# Altium schematic symbol library ICs_Control.SchLib: 37 symbols (part 6 of 6)
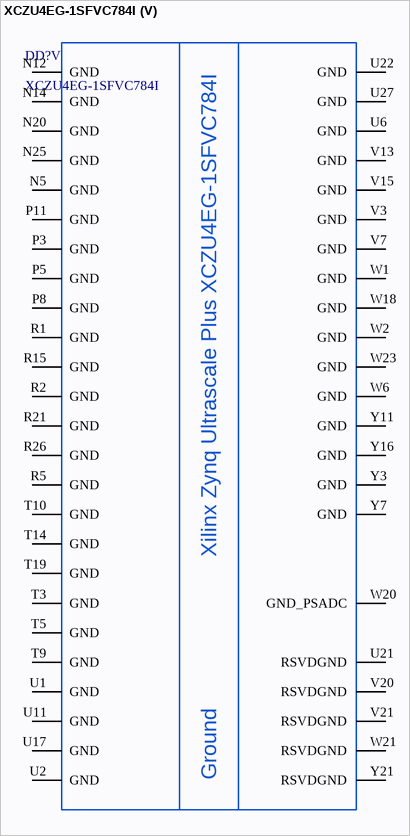
[diagram p82: symbol XCZU4EG-1SFVC784I]

## XCZU4EG-1SFVC784I
designator DD?
Zynq Ultrascale Plus MPSoC, 214 PS I/O, 252 PL I/O, 784-Ball BGA, 4 GTR, 4 GTH; Manufacturer: Xilinx; ItemType: IC; ItemSubType: SoC; Speed Grade: -1; PartNumber: XCZU4EG-1SFVC784I; Package: SFVC784; Marking: XCZU4EG; Mounting: SMD
footprint SFVC784_XCZU4EG (BGA, 784-Leads, Body 23,00x23,00mmx3,12mm, Pitch 0,80mm)
part A pins: P12 VCCADC (power), P13 GNDADC, R12 VREFN (in), R13 VP (in), T12 VN (in), T13 VREFP (in), U7 PUDC_B (in), U12 DXN (in), U13 DXP (in), W7 POR_OVERRIDE (in)
part B pins: AA8 IO_L11N_AD1N_43 (io), AA10 IO_L9N_AD3N_43 (io), AA11 IO_L9P_AD3P_43 (io), AB9 IO_L12N_AD0N_43 (io), AB10 IO_L12P_AD0P_43 (io), AB11 IO_L8P_HDGC_AD4P_43 (io), AC11 IO_L8N_HDGC_AD4N_43 (io), AC12 IO_L6P_HDGC_AD6P_43 (io), AD10 IO_L7N_HDGC_AD5N_43 (io), AD11 IO_L7P_HDGC_AD5P_43 (io), AD12 IO_L6N_HDGC_AD6N_43 (io), AE10 IO_L4P_AD8P_43 (io), AE12 IO_L5P_HDGC_AD7P_43 (io), AF10 IO_L4N_AD8N_43 (io), AF11 IO_L2P_AD10P_43 (io), AF12 IO_L5N_HDGC_AD7N_43 (io), AG10 IO_L1P_AD11P_43 (io), AG11 IO_L2N_AD10N_43 (io), AH10 IO_L1N_AD11N_43 (io), AH11 IO_L3N_AD9N_43 (io), AH12 IO_L3P_AD9P_43 (io), W10 IO_L10P_AD2P_43 (io), Y9 IO_L11P_AD1P_43 (io), Y10 IO_L10N_AD2N_43 (io)
part C pins: AA12 IO_L12N_AD8N_44 (io), AA13 IO_L7P_HDGC_44 (io), AB13 IO_L7N_HDGC_44 (io), AB14 IO_L8N_HDGC_44 (io), AB15 IO_L8P_HDGC_44 (io), AC13 IO_L6N_HDGC_44 (io), AC14 IO_L6P_HDGC_44 (io), AD14 IO_L5N_HDGC_44 (io), AD15 IO_L5P_HDGC_44 (io), AE13 IO_L4P_AD12P_44 (io), AE14 IO_L1N_AD15N_44 (io), AE15 IO_L1P_AD15P_44 (io), AF13 IO_L4N_AD12N_44 (io), AG13 IO_L3P_AD13P_44 (io), AG14 IO_L2P_AD14P_44 (io), AH13 IO_L3N_AD13N_44 (io), AH14 IO_L2N_AD14N_44 (io), W11 IO_L11N_AD9N_44 (io), W12 IO_L11P_AD9P_44 (io), W13 IO_L9N_AD11N_44 (io), W14 IO_L9P_AD11P_44 (io), Y12 IO_L12P_AD8P_44 (io), Y13 IO_L10N_AD10N_44 (io), Y14 IO_L10P_AD10P_44 (io)
part D pins: A10 IO_L10N_AD10N_45 (io), A11 IO_L11N_AD9N_45 (io), A12 IO_L11P_AD9P_45 (io), B10 IO_L9N_AD11N_45 (io), B11 IO_L10P_AD10P_45 (io), C11 IO_L9P_AD11P_45 (io), C12 IO_L12N_AD8N_45 (io), D10 IO_L7N_HDGC_45 (io), D11 IO_L8N_HDGC_45 (io), D12 IO_L12P_AD8P_45 (io), E10 IO_L7P_HDGC_45 (io), E12 IO_L8P_HDGC_45 (io), F10 IO_L5N_HDGC_45 (io), F11 IO_L6N_HDGC_45 (io), F12 IO_L6P_HDGC_45 (io), G10 IO_L3N_AD13N_45 (io), G11 IO_L5P_HDGC_45 (io), H11 IO_L3P_AD13P_45 (io), H12 IO_L4N_AD12N_45 (io), J10 IO_L1N_AD15N_45 (io), J11 IO_L1P_AD15P_45 (io), J12 IO_L4P_AD12P_45 (io), K12 IO_L2N_AD14N_45 (io), K13 IO_L2P_AD14P_45 (io)
part E pins: A13 IO_L3N_AD9N_46 (io), A14 IO_L2N_AD10N_46 (io), A15 IO_L1N_AD11N_46 (io), B13 IO_L3P_AD9P_46 (io), B14 IO_L2P_AD10P_46 (io), B15 IO_L1P_AD11P_46 (io), C13 IO_L4N_AD8N_46 (io), C14 IO_L4P_AD8P_46 (io), D14 IO_L5N_HDGC_AD7N_46 (io), D15 IO_L5P_HDGC_AD7P_46 (io), E13 IO_L6N_HDGC_AD6N_46 (io), E14 IO_L6P_HDGC_AD6P_46 (io), E15 IO_L8N_HDGC_AD4N_46 (io), F13 IO_L7N_HDGC_AD5N_46 (io), F15 IO_L8P_HDGC_AD4P_46 (io), G13 IO_L7P_HDGC_AD5P_46 (io), G14 IO_L9N_AD3N_46 (io), G15 IO_L9P_AD3P_46 (io), H13 IO_L10N_AD2N_46 (io), H14 IO_L10P_AD2P_46 (io), J14 IO_L11N_AD1N_46 (io), K14 IO_L11P_AD1P_46 (io), L13 IO_L12N_AD0N_46 (io), L14 IO_L12P_AD0P_46 (io)
part F pins: AA7 VREF_64, AB1 IO_L18P_T2U_N10_AD2P_64 (io), AB2 IO_L17P_T2U_N8_AD10P_64 (io), AB3 IO_L15N_T2L_N5_AD11N_64 (io), AB4 IO_L15P_T2L_N4_AD11P_64 (io), AB5 IO_T2U_N12_64 (io), AB6 IO_L6P_T0U_N10_AD6P_64 (io), AB7 IO_L5P_T0U_N8_AD14P_64 (io), AB8 IO_L3P_T0L_N4_AD15P_64 (io), AC1 IO_L18N_T2U_N11_AD2N_64 (io), AC2 IO_L17N_T2U_N9_AD10N_64 (io), AC3 IO_L14N_T2L_N3_GC_64 (io), AC4 IO_L14P_T2L_N2_GC_64 (io), AC6 IO_L6N_T0U_N11_AD6N_64 (io), AC7 IO_L5N_T0U_N9_AD14N_64 (io), AC8 IO_L3N_T0L_N5_AD15N_64 (io), AC9 IO_L1P_T0L_N0_DBC_64 (io), AD1 IO_L16N_T2U_N7_QBC_AD3N_64 (io), AD2 IO_L16P_T2U_N6_QBC_AD3P_64 (io), AD4 IO_L13N_T2L_N1_GC_QBC_64 (io), AD5 IO_L13P_T2L_N0_GC_QBC_64 (io), AD6 IO_T0U_N12_VRP_64 (io), AD7 IO_L4P_T0U_N6_DBC_AD7P_64 (io), AD9 IO_L1N_T0L_N1_DBC_64 (io), AE2 IO_L22P_T3U_N6_DBC_AD0P_64 (io), AE3 IO_L21P_T3L_N4_AD8P_64 (io), AE4 IO_T3U_N12_64 (io), AE5 IO_L12P_T1U_N10_GC_64 (io), AE7 IO_L4N_T0U_N7_DBC_AD7N_64 (io), AE8 IO_L2N_T0L_N3_64 (io), AE9 IO_L2P_T0L_N2_64 (io), AF1 IO_L24P_T3U_N10_64 (io), AF2 IO_L22N_T3U_N7_DBC_AD0N_64 (io), AF3 IO_L21N_T3L_N5_AD8N_64 (io), AF5 IO_L12N_T1U_N11_GC_64 (io), AF6 IO_L11N_T1U_N9_GC_64 (io), AF7 IO_L11P_T1U_N8_GC_64 (io), AF8 IO_L8P_T1L_N2_AD5P_64 (io), AG1 IO_L24N_T3U_N11_64 (io), AG3 IO_L20P_T3L_N2_AD1P_64 (io), AG4 IO_L19P_T3L_N0_DBC_AD9P_64 (io), AG5 IO_L10N_T1U_N7_QBC_AD4N_64 (io), AG6 IO_L10P_T1U_N6_QBC_AD4P_64 (io), AG8 IO_L8N_T1L_N3_AD5N_64 (io), AG9 IO_L7P_T1L_N0_QBC_AD13P_64 (io), AH1 IO_L23N_T3U_N9_64 (io), AH2 IO_L23P_T3U_N8_64 (io), AH3 IO_L20N_T3L_N3_AD1N_64 (io), AH4 IO_L19N_T3L_N1_DBC_AD9N_64 (io), AH6 IO_T1U_N12_64 (io), AH7 IO_L9N_T1L_N5_AD12N_64 (io), AH8 IO_L9P_T1L_N4_AD12P_64 (io), AH9 IO_L7N_T1L_N1_QBC_AD13N_64 (io)
part G pins: H1 IO_L8N_T1L_N3_AD5N_65 (io), H2 IO_T1U_N12_65 (io), H3 IO_L10N_T1U_N7_QBC_AD4N_65 (io), H4 IO_L10P_T1U_N6_QBC_AD4P_65 (io), H6 IO_L20N_T3L_N3_AD1N_65 (io), H7 IO_L21N_T3L_N5_AD8N_65 (io), H8 IO_L24N_T3U_N11_PERSTN0_65 (io), H9 IO_L24P_T3U_N10_PERSTN1_I2C_SDA_65 (io), J1 IO_L8P_T1L_N2_AD5P_65 (io), J2 IO_L9N_T1L_N5_AD12N_65 (io), J4 IO_L19N_T3L_N1_DBC_AD9N_65 (io), J5 IO_L19P_T3L_N0_DBC_AD9P_65 (io), J6 IO_L20P_T3L_N2_AD1P_65 (io), J7 IO_L21P_T3L_N4_AD8P_65 (io), J9 IO_L23N_T3U_N9_65 (io), K1 IO_L7N_T1L_N1_QBC_AD13N_65 (io), K2 IO_L9P_T1L_N4_AD12P_65 (io), K3 IO_L11N_T1U_N9_GC_65 (io), K4 IO_L11P_T1U_N8_GC_65 (io), K5 IO_T3U_N12_65 (io), K7 IO_L22N_T3U_N7_DBC_AD0N_65 (io), K8 IO_L22P_T3U_N6_DBC_AD0P_65 (io), K9 IO_L23P_T3U_N8_I2C_SCLK_65 (io), L1 IO_L7P_T1L_N0_QBC_AD13P_65 (io), L2 IO_L12N_T1U_N11_GC_65 (io), L3 IO_L12P_T1U_N10_GC_65 (io), L5 IO_L14N_T2L_N3_GC_65 (io), L6 IO_L13N_T2L_N1_GC_QBC_65 (io), L7 IO_L13P_T2L_N0_GC_QBC_65 (io), L8 IO_L18N_T2U_N11_AD2N_65 (io), M6 IO_L14P_T2L_N2_GC_65 (io), M8 IO_L18P_T2U_N10_AD2P_65 (io), N6 IO_L15N_T2L_N5_AD11N_65 (io), N7 IO_L15P_T2L_N4_AD11P_65 (io), N8 IO_L17N_T2U_N9_AD10N_65 (io), N9 IO_L17P_T2U_N8_AD10P_65 (io), P6 IO_L16N_T2U_N7_QBC_AD3N_65 (io), P7 IO_L16P_T2U_N6_QBC_AD3P_65 (io), P9 IO_T2U_N12_65 (io), R6 IO_L6P_T0U_N10_AD6P_65 (io), R7 IO_L5P_T0U_N8_AD14P_65 (io), R8 IO_L4P_T0U_N6_DBC_AD7P_SMBALERT_65 (io), R9 VREF_65, T6 IO_L6N_T0U_N11_AD6N_65 (io), T7 IO_L5N_T0U_N9_AD14N_65 (io), T8 IO_L4N_T0U_N7_DBC_AD7N_65 (io), U8 IO_L3P_T0L_N4_AD15P_65 (io), U9 IO_L2P_T0L_N2_65 (io), V8 IO_L3N_T0L_N5_AD15N_65 (io), V9 IO_L2N_T0L_N3_65 (io), W8 IO_L1P_T0L_N0_DBC_65 (io), W9 IO_T0U_N12_VRP_65 (io), Y8 IO_L1N_T0L_N1_DBC_65 (io)
part H pins: A1 IO_L8N_T1L_N3_AD5N_66 (io), A2 IO_L8P_T1L_N2_AD5P_66 (io), A3 IO_L9N_T1L_N5_AD12N_66 (io), A4 IO_L10N_T1U_N7_QBC_AD4N_66 (io), A5 IO_L19N_T3L_N1_DBC_AD9N_66 (io), A6 IO_L21N_T3L_N5_AD8N_66 (io), A7 IO_L21P_T3L_N4_AD8P_66 (io), A8 IO_L23N_T3U_N9_66 (io), A9 IO_L23P_T3U_N8_66 (io), B1 IO_L7N_T1L_N1_QBC_AD13N_66 (io), B3 IO_L9P_T1L_N4_AD12P_66 (io), B4 IO_L10P_T1U_N6_QBC_AD4P_66 (io), B5 IO_L19P_T3L_N0_DBC_AD9P_66 (io), B6 IO_L20N_T3L_N3_AD1N_66 (io), B8 IO_L22N_T3U_N7_DBC_AD0N_66 (io), B9 IO_L24N_T3U_N11_66 (io), C1 IO_L7P_T1L_N0_QBC_AD13P_66 (io), C2 IO_L12N_T1U_N11_GC_66 (io), C3 IO_L12P_T1U_N10_GC_66 (io), C4 IO_L11N_T1U_N9_GC_66 (io), C6 IO_L20P_T3L_N2_AD1P_66 (io), C7 IO_T3U_N12_66 (io), C8 IO_L22P_T3U_N6_DBC_AD0P_66 (io), C9 IO_L24P_T3U_N10_66 (io), D1 IO_L2N_T0L_N3_66 (io), D2 IO_T1U_N12_66 (io), D4 IO_L11P_T1U_N8_GC_66 (io), D5 IO_L14N_T2L_N3_GC_66 (io), D6 IO_L13N_T2L_N1_GC_QBC_66 (io), D7 IO_L13P_T2L_N0_GC_QBC_66 (io), D9 IO_L18N_T2U_N11_AD2N_66 (io), E1 IO_L2P_T0L_N2_66 (io), E2 IO_L3N_T0L_N5_AD15N_66 (io), E3 IO_L5N_T0U_N9_AD14N_66 (io), E4 IO_L5P_T0U_N8_AD14P_66 (io), E5 IO_L14P_T2L_N2_GC_66 (io), E7 IO_T2U_N12_66 (io), E8 IO_L17N_T2U_N9_AD10N_66 (io), E9 IO_L18P_T2U_N10_AD2P_66 (io), F1 IO_L1N_T0L_N1_DBC_66 (io), F2 IO_L3P_T0L_N4_AD15P_66 (io), F3 IO_L4N_T0U_N7_DBC_AD7N_66 (io), F5 IO_L6N_T0U_N11_AD6N_66 (io), F6 IO_L15N_T2L_N5_AD11N_66 (io), F7 IO_L16N_T2U_N7_QBC_AD3N_66 (io), F8 IO_L17P_T2U_N8_AD10P_66 (io), G1 IO_L1P_T0L_N0_DBC_66 (io), G3 IO_L4P_T0U_N6_DBC_AD7P_66 (io), G4 IO_T0U_N12_VRP_66 (io), G5 IO_L6P_T0U_N10_AD6P_66 (io), G6 IO_L15P_T2L_N4_AD11P_66 (io), G8 IO_L16P_T2U_N6_QBC_AD3P_66 (io), G9 VREF_66
part I pins: N1 MGTAVTTRCAL_R, N2 MGTRREF_R, N3 MGTHTXN3_224 (out), N4 MGTHTXP3_224 (out), P1 MGTHRXN3_224 (in), P2 MGTHRXP3_224 (in), R3 MGTHTXN2_224 (out), R4 MGTHTXP2_224 (out), T1 MGTHRXN2_224 (in), T2 MGTHRXP2_224 (in), U3 MGTHTXN1_224 (out), U4 MGTHTXP1_224 (out), V1 MGTHRXN1_224 (in), V2 MGTHRXP1_224 (in), V5 MGTREFCLK1N_224 (in), V6 MGTREFCLK1P_224 (in), W3 MGTHTXN0_224 (out), W4 MGTHTXP0_224 (out), Y1 MGTHRXN0_224 (in), Y2 MGTHRXP0_224 (in), Y5 MGTREFCLK0N_224 (in), Y6 MGTREFCLK0P_224 (in)
part J pins: AB18 PS_MIO23 (io), AB19 PS_MIO24 (io), AB20 PS_MIO22 (io), AB21 PS_MIO25 (io), AC16 PS_MIO9 (io), AC17 PS_MIO12 (io), AC18 PS_MIO17 (io), AC19 PS_MIO18 (io), AC21 PS_MIO21 (io), AD16 PS_MIO5 (io), AD17 PS_MIO10 (io), AD19 PS_MIO20 (io), AE17 PS_MIO11 (io), AE18 PS_MIO15 (io), AE19 PS_MIO19 (io), AF15 PS_MIO2 (io), AF16 PS_MIO6 (io), AF17 PS_MIO8 (io), AF18 PS_MIO16 (io), AG15 PS_MIO0 (io), AG16 PS_MIO1 (io), AG18 PS_MIO14 (io), AH15 PS_MIO3 (io), AH16 PS_MIO4 (io), AH17 PS_MIO7 (io), AH18 PS_MIO13 (io)
part K pins: F16 PS_MIO30 (io), G16 PS_MIO29 (io), H16 PS_MIO31 (io), H17 PS_MIO35 (io), H18 PS_MIO38 (io), H19 PS_MIO39 (io), H21 PS_MIO47 (io), J15 PS_MIO27 (io), J16 PS_MIO32 (io), J17 PS_MIO37 (io), J19 PS_MIO41 (io), J20 PS_MIO44 (io), J21 PS_MIO48 (io), K15 PS_MIO28 (io), K17 PS_MIO36 (io), K18 PS_MIO40 (io), K19 PS_MIO43 (io), K20 PS_MIO45 (io), L15 PS_MIO26 (io), L16 PS_MIO33 (io), L17 PS_MIO34 (io), L18 PS_MIO42 (io), L20 PS_MIO46 (io), L21 PS_MIO51 (io), M18 PS_MIO49 (io), M19 PS_MIO50 (io)
part L pins: A16 PS_MIO57 (io), A17 PS_MIO62 (io), A18 PS_MIO65 (io), A19 PS_MIO75 (io), B16 PS_MIO55 (io), B18 PS_MIO67 (io), B19 PS_MIO71 (io), B20 PS_MIO76 (io), C16 PS_MIO56 (io), C17 PS_MIO60 (io), C18 PS_MIO68 (io), C19 PS_MIO70 (io), D16 PS_MIO53 (io), D17 PS_MIO61 (io), D19 PS_MIO69 (io), D20 PS_MIO74 (io), E17 PS_MIO59 (io), E18 PS_MIO63 (io), E19 PS_MIO64 (io), F17 PS_MIO54 (io), F18 PS_MIO58 (io), F20 PS_MIO77 (io), G18 PS_MIO52 (io), G19 PS_MIO66 (io), G20 PS_MIO72 (io), G21 PS_MIO73 (io)
part M pins: M20 PS_ERROR_STATUS (out), M21 PS_DONE (out), N17 PS_PADI (in), N18 PS_PADO (out), N19 PS_SRST_B (in), N21 PS_JTAG_TMS (in), P16 PS_POR_B (in), P17 PS_ERROR_OUT (out), P19 PS_MODE0 (in), P20 PS_MODE1 (in), P21 PS_INIT_B (in), R16 PS_REF_CLK (in), R17 PS_PROG_B (in), R18 PS_JTAG_TDI (in), R19 PS_JTAG_TCK (in), R20 PS_MODE2 (in), T20 PS_MODE3 (in), T21 PS_JTAG_TDO (out)
part N pins: AA22 PS_DDR_A8 (out), AA23 PS_DDR_A7 (out), AA25 PS_DDR_A10 (out), AA26 PS_DDR_A11 (out), AA27 PS_DDR_A5 (out), AA28 PS_DDR_A3 (out), AB23 PS_DDR_A9 (out), AB24 PS_DDR_A14 (out), AB25 PS_DDR_A12 (out), AB26 PS_DDR_A13 (out), AB28 PS_DDR_A2 (out), AC22 PS_DDR_A17 (out), AC23 PS_DDR_A16 (out), AC24 PS_DDR_A15 (out), U23 PS_DDR_RAM_RST_N (out), U24 PS_DDR_ZQ, U25 PS_DDR_ALERT_N (in), U26 PS_DDR_ODT1 (out), U28 PS_DDR_ODT0 (out), V22 PS_DDR_BG1 (out), V23 PS_DDR_BA0 (out), V24 PS_DDR_PARITY (out), V26 PS_DDR_CS_N1 (out), V27 PS_DDR_CKE1 (out), V28 PS_DDR_CKE0 (out), W22 PS_DDR_BA1 (out), W24 PS_DDR_BG0 (out), W25 PS_DDR_CK0 (out), W26 PS_DDR_CK_N0 (out), W27 PS_DDR_CS_N0 (out), W28 PS_DDR_A0 (out), Y22 PS_DDR_A6 (out), Y23 PS_DDR_ACT_N (out), Y24 PS_DDR_CK1 (out), Y25 PS_DDR_CK_N1 (out), Y27 PS_DDR_A4 (out), Y28 PS_DDR_A1 (out)
part O pins: AC26 PS_DDR_DQ16 (io), AC27 PS_DDR_DQ28 (io), AC28 PS_DDR_DQ31 (io), AD20 PS_DDR_DQ2 (io), AD21 PS_DDR_DQ0 (io), AD22 PS_DDR_DQ11 (io), AD24 PS_DDR_DQ19 (io), AD25 PS_DDR_DQ18 (io), AD26 PS_DDR_DQ17 (io), AD27 PS_DDR_DQ29 (io), AD28 PS_DDR_DQ30 (io), AE20 PS_DDR_DQ1 (io), AE22 PS_DDR_DQ10 (io), AE23 PS_DDR_DM1 (out), AE24 PS_DDR_DQ14 (io), AE25 PS_DDR_DM2 (out), AE27 PS_DDR_DQS_P3 (io), AE28 PS_DDR_DM3 (out), AF20 PS_DDR_DQ3 (io), AF21 PS_DDR_DQS_P0 (io), AF22 PS_DDR_DQ8 (io), AF23 PS_DDR_DQS_P1 (io), AF25 PS_DDR_DQS_P2 (io), AF26 PS_DDR_DQS_N2 (io), AF27 PS_DDR_DQS_N3 (io), AF28 PS_DDR_DQ26 (io), AG19 PS_DDR_DQ7 (io), AG20 PS_DDR_DM0 (out), AG21 PS_DDR_DQS_N0 (io), AG23 PS_DDR_DQS_N1 (io), AG24 PS_DDR_DQ15 (io), AG25 PS_DDR_DQ23 (io), AG26 PS_DDR_DQ20 (io), AG28 PS_DDR_DQ27 (io), AH19 PS_DDR_DQ6 (io), AH20 PS_DDR_DQ5 (io), AH21 PS_DDR_DQ4 (io), AH22 PS_DDR_DQ9 (io), AH23 PS_DDR_DQ12 (io), AH24 PS_DDR_DQ13 (io), AH25 PS_DDR_DQ21 (io), AH26 PS_DDR_DQ22 (io), AH27 PS_DDR_DQ24 (io), AH28 PS_DDR_DQ25 (io)
part P pins: G25 PS_DDR_DQ61 (io), G26 PS_DDR_DQ60 (io), H22 PS_DDR_DQ45 (io), H23 PS_DDR_DM5 (out), H24 PS_DDR_DQ40 (io), H26 PS_DDR_DM7 (out), H27 PS_DDR_DQ59 (io), H28 PS_DDR_DQ58 (io), J22 PS_DDR_DQ44 (io), J24 PS_DDR_DQ41 (io), J25 PS_DDR_DQ63 (io), J26 PS_DDR_DQS_P7 (io), J27 PS_DDR_DQS_N7 (io), J28 PS_DDR_DQ56 (io), K22 PS_DDR_DQ46 (io), K23 PS_DDR_DQS_N5 (io), K24 PS_DDR_DQ43 (io), K25 PS_DDR_DQ62 (io), K27 PS_DDR_DQ57 (io), K28 PS_DDR_DQ52 (io), L22 PS_DDR_DQ47 (io), L23 PS_DDR_DQS_P5 (io), L25 PS_DDR_DQ50 (io), L26 PS_DDR_DQ51 (io), L27 PS_DDR_DM6 (out), L28 PS_DDR_DQ53 (io), M23 PS_DDR_DQS_N4 (io), M24 PS_DDR_DQ42 (io), M25 PS_DDR_DQ48 (io), M26 PS_DDR_DQ49 (io), M28 PS_DDR_DQ54 (io), N22 PS_DDR_DQ35 (io), N23 PS_DDR_DQS_P4 (io), N24 PS_DDR_DQ39 (io), N26 PS_DDR_DQS_P6 (io), N27 PS_DDR_DQS_N6 (io), N28 PS_DDR_DQ55 (io), P22 PS_DDR_DQ34 (io), P24 PS_DDR_DQ37 (io), P25 PS_DDR_DQ70 (io), P26 PS_DDR_DQ68 (io), P27 PS_DDR_DQ67 (io), P28 PS_DDR_DQ66 (io), R22 PS_DDR_DQ33 (io), R23 PS_DDR_DM4 (out), R24 PS_DDR_DQ38 (io), R25 PS_DDR_DQ69 (io), R27 PS_DDR_DQS_P8 (io), R28 PS_DDR_DQ65 (io), T22 PS_DDR_DQ32 (io), T23 PS_DDR_DQ36 (io), T25 PS_DDR_DQ71 (io), T26 PS_DDR_DM8 (out), T27 PS_DDR_DQS_N8 (io), T28 PS_DDR_DQ64 (io)
part Q pins: A21 PS_MGTREFCLK3P_505 (in), A22 PS_MGTREFCLK3N_505 (in), A25 PS_MGTRRXP3_505 (in), A26 PS_MGTRRXN3_505 (in), B23 PS_MGTRTXP3_505 (out), B24 PS_MGTRTXN3_505 (out), B27 PS_MGTRRXP2_505 (in), B28 PS_MGTRRXN2_505 (in), C21 PS_MGTREFCLK2P_505 (in), C22 PS_MGTREFCLK2N_505 (in), C25 PS_MGTRTXP2_505 (out), C26 PS_MGTRTXN2_505 (out), D23 PS_MGTRTXP1_505 (out), D24 PS_MGTRTXN1_505 (out), D27 PS_MGTRRXP1_505 (in), D28 PS_MGTRRXN1_505 (in), E21 PS_MGTREFCLK1P_505 (in), E22 PS_MGTREFCLK1N_505 (in), E25 PS_MGTRTXP0_505 (out), E26 PS_MGTRTXN0_505 (out), F22 PS_MGTRREF_505, F23 PS_MGTREFCLK0P_505 (in), F24 PS_MGTREFCLK0N_505 (in), F27 PS_MGTRRXP0_505 (in), F28 PS_MGTRRXN0_505 (in)
part R pins: A23 PS_MGTRAVTT (power), AA15 VCC_PSINTFP (power), AA16 VCC_PSINTFP (power), AA17 VCC_PSINTFP (power), AA18 VCC_PSINTFP (power), AA20 VCC_PSINTFP_DDR (power), AA21 VCC_PSINTFP_DDR (power), AB16 VCC_PSINTFP (power), AB17 VCCO_PSIO0_500 (power), AB22 VCCO_PSDDR_504 (power), AD23 VCCO_PSDDR_504 (power), AE16 VCCO_PSIO0_500 (power), AF24 VCCO_PSDDR_504 (power), AG17 VCCO_PSIO0_500 (power), B22 PS_MGTRAVCC (power), C23 PS_MGTRAVTT (power), D18 VCCO_PSIO2_502 (power), D22 PS_MGTRAVCC (power), D25 PS_MGTRAVTT (power), E23 PS_MGTRAVTT (power), G17 VCCO_PSIO2_502 (power), H20 VCCO_PSIO1_501 (power), L19 VCCO_PSIO1_501 (power), M17 VCCO_PSIO3_503 (power), P18 VCCO_PSIO3_503 (power), P23 VCCO_PSDDR_504 (power), T16 VCC_PSPLL (power), T17 VCC_PSPLL (power), T18 VCC_PSPLL (power), T24 VCCO_PSDDR_504 (power), U16 VCC_PSDDR_PLL (power), U18 VCC_PSDDR_PLL (power), U19 VCC_PSAUX (power), U20 VCC_PSAUX (power), V16 VCC_PSINTLP (power), V17 VCC_PSINTLP (power), V18 VCC_PSINTLP (power), V19 VCC_PSAUX (power), V25 VCCO_PSDDR_504 (power), W15 VCC_PSINTLP (power), W16 VCC_PSINTLP (power), W17 VCC_PSINTLP (power), W19 VCC_PSAUX (power), Y15 VCC_PSINTFP (power), Y17 VCC_PSINTFP (power), Y18 VCC_PSBATT (power), Y19 VCC_PSINTFP_DDR (power), Y20 VCC_PSADC (power), Y26 VCCO_PSDDR_504 (power)
part S pins: K10 VCCINT_IO (power), L10 VCCINT_IO (power), L11 VCCBRAM (power), L12 VCCBRAM (power), M9 VCCINT_IO (power), M10 VCCINT_IO (power), M11 VCCBRAM (power), M12 VCCBRAM (power), M13 VCCAUX_IO (power), M14 VCCAUX_IO (power), M15 VCCAUX_IO (power), M16 VCCAUX (power), N11 VCCINT (power), N13 VCCINT (power), N15 VCCINT (power), N16 VCCAUX (power), P4 MGTAVTT_R (power), P10 VCCINT (power), P14 VCCINT (power), P15 VCCINT (power), R10 VCCINT (power), R11 VCCINT (power), R14 VCCINT (power), T4 MGTAVTT_R (power), T11 VCCINT (power), T15 VCCINT (power), U5 MGTVCCAUX_R (power), U10 VCCINT (power), U14 VCCINT (power), U15 VCCINT (power), V4 MGTAVCC_R (power), V10 VCCINT (power), V11 VCCINT (power), V12 VCCINT (power), V14 VCCINT (power), W5 MGTVCCAUX_R (power), Y4 MGTAVCC_R (power)
part T pins: AA14 VCCO_44 (power), AC5 VCCO_64 (power), AC10 VCCO_43 (power), AD8 VCCO_64 (power), AD13 VCCO_44 (power), AG7 VCCO_64 (power), AG12 VCCO_43 (power), B7 VCCO_66 (power), B12 VCCO_45 (power), C15 VCCO_46 (power), D3 VCCO_66 (power), E6 VCCO_66 (power), E11 VCCO_45 (power), F14 VCCO_46 (power), H5 VCCO_65 (power), J3 VCCO_65 (power), L4 VCCO_65 (power)
part U pins: A20 GND, A24 GND, A27 GND, A28 GND, AA1 GND, AA2 GND, AA3 GND, AA4 GND, AA5 GND, AA6 GND, AA9 GND, AA19 GND, AA24 GND, AB12 GND, AB27 GND, AC15 GND, AC20 GND, AC25 GND, AD3 GND, AD18 GND, AE1 GND, AE6 GND, AE11 GND, AE21 GND, AE26 GND, AF4 GND, AF9 GND, AF14 GND, AF19 GND, AG2 GND, AG22 GND, AG27 GND, AH5 GND, B2 GND, B17 GND, B21 GND, B25 GND, B26 GND, C5 GND, C10 GND, C20 GND, C24 GND, C27 GND, C28 GND, D8 GND, D13 GND, D21 GND, D26 GND, E16 GND, E20 GND, E24 GND, E27 GND, E28 GND, F4 GND, F9 GND, F19 GND, F21 GND, F25 GND, F26 GND, G2 GND, G7 GND, G12 GND, G22 GND, G23 GND, G24 GND, G27 GND, G28 GND, H10 GND, H15 GND, H25 GND, J8 GND, J13 GND, J18 GND, J23 GND, K6 GND, K11 GND, K16 GND, K21 GND, K26 GND, L9 GND, L24 GND, M1 GND, M2 GND, M3 GND, M4 GND, M5 GND, M7 GND, M22 GND, M27 GND, N10 GND
part V pins: N5 GND, N12 GND, N14 GND, N20 GND, N25 GND, P3 GND, P5 GND, P8 GND, P11 GND, R1 GND, R2 GND, R5 GND, R15 GND, R21 GND, R26 GND, T3 GND, T5 GND, T9 GND, T10 GND, T14 GND, T19 GND, U1 GND, U2 GND, U6 GND, U11 GND, U17 GND, U21 RSVDGND, U22 GND, U27 GND, V3 GND, V7 GND, V13 GND, V15 GND, V20 RSVDGND, V21 RSVDGND, W1 GND, W2 GND, W6 GND, W18 GND, W20 GND_PSADC, W21 RSVDGND, W23 GND, Y3 GND, Y7 GND, Y11 GND, Y16 GND, Y21 RSVDGND
part A text: Xilinx Zynq Ultrascale Plus XCZU4EG-1SFVC784I; BANK 0
part B text: Xilinx Zynq Ultrascale Plus XCZU4EG-1SFVC784I; BANK 43 HD
part C text: Xilinx Zynq Ultrascale Plus XCZU4EG-1SFVC784I; BANK 44 HD
part D text: Xilinx Zynq Ultrascale Plus XCZU4EG-1SFVC784I; BANK 45 HD
part E text: Xilinx Zynq Ultrascale Plus XCZU4EG-1SFVC784I; BANK 46 HD
part F text: Xilinx Zynq Ultrascale Plus XCZU4EG-1SFVC784I; BANK 64 HP
part G text: Xilinx Zynq Ultrascale Plus XCZU4EG-1SFVC784I; BANK 65 HP
part H text: Xilinx Zynq Ultrascale Plus XCZU4EG-1SFVC784I; BANK 66 HP
part I text: Xilinx Zynq Ultrascale Plus XCZU4EG-1SFVC784I; BANK 224 GTH
part J text: Xilinx Zynq Ultrascale Plus XCZU4EG-1SFVC784I; BANK 500 PS
part K text: Xilinx Zynq Ultrascale Plus XCZU4EG-1SFVC784I; BANK 501 PS
part L text: Xilinx Zynq Ultrascale Plus XCZU4EG-1SFVC784I; BANK 502 PS
part M text: Xilinx Zynq Ultrascale Plus XCZU4EG-1SFVC784I; BANK 503 PS
part N text: Xilinx Zynq Ultrascale Plus XCZU4EG-1SFVC784I; BANK 504 PSDDR
part O text: Xilinx Zynq Ultrascale Plus XCZU4EG-1SFVC784I; BANK 504 PSDDR
part P text: Xilinx Zynq Ultrascale Plus XCZU4EG-1SFVC784I; BANK 504 PSDDR
part Q text: Xilinx Zynq Ultrascale Plus XCZU4EG-1SFVC784I; BANK 505 GTR
part R text: Xilinx Zynq Ultrascale Plus XCZU4EG-1SFVC784I; PS Power
part S text: Xilinx Zynq Ultrascale Plus XCZU4EG-1SFVC784I; PL Power
part T text: Xilinx Zynq Ultrascale Plus XCZU4EG-1SFVC784I; PL I/O Power
part U text: Xilinx Zynq Ultrascale Plus XCZU4EG-1SFVC784I; Ground
part V text: Xilinx Zynq Ultrascale Plus XCZU4EG-1SFVC784I; Ground